# EAGLE library part 2N7002PS (library SMARTBALL_v1)
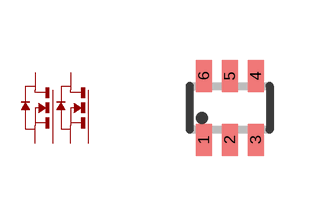
[diagram p8: symbol with the pads of SOT363_PHILIPS; footprint SOT363_PHILIPS]

Designator prefix -

## 2N7002PS  [SOT363_PHILIPS]
1  S1  pas
2  G1  pas
3  D2  pas
4  S2  pas
5  G2  pas
6  D1  pas

## Footprint SOT363_PHILIPS (pad centres in mm)
Small Outline Transistor; 6 leads Philips Semiconductors, SOT363.pdf
smd 0.4 x 0.8: 1 -0.65,-0.8; 2 0,-0.8; 3 0.65,-0.8; 4 0.65,0.8; 5 0,0.8; 6 -0.65,0.8